# EAGLE library part EP4CE15E22C8N (library Signetics)
Altera FPGA EP4CE15E22C8N, Cyclone IV E 15408 Cells, 504kbit, 963 Blocks, 144-Pin EQFP Source: Datasheet
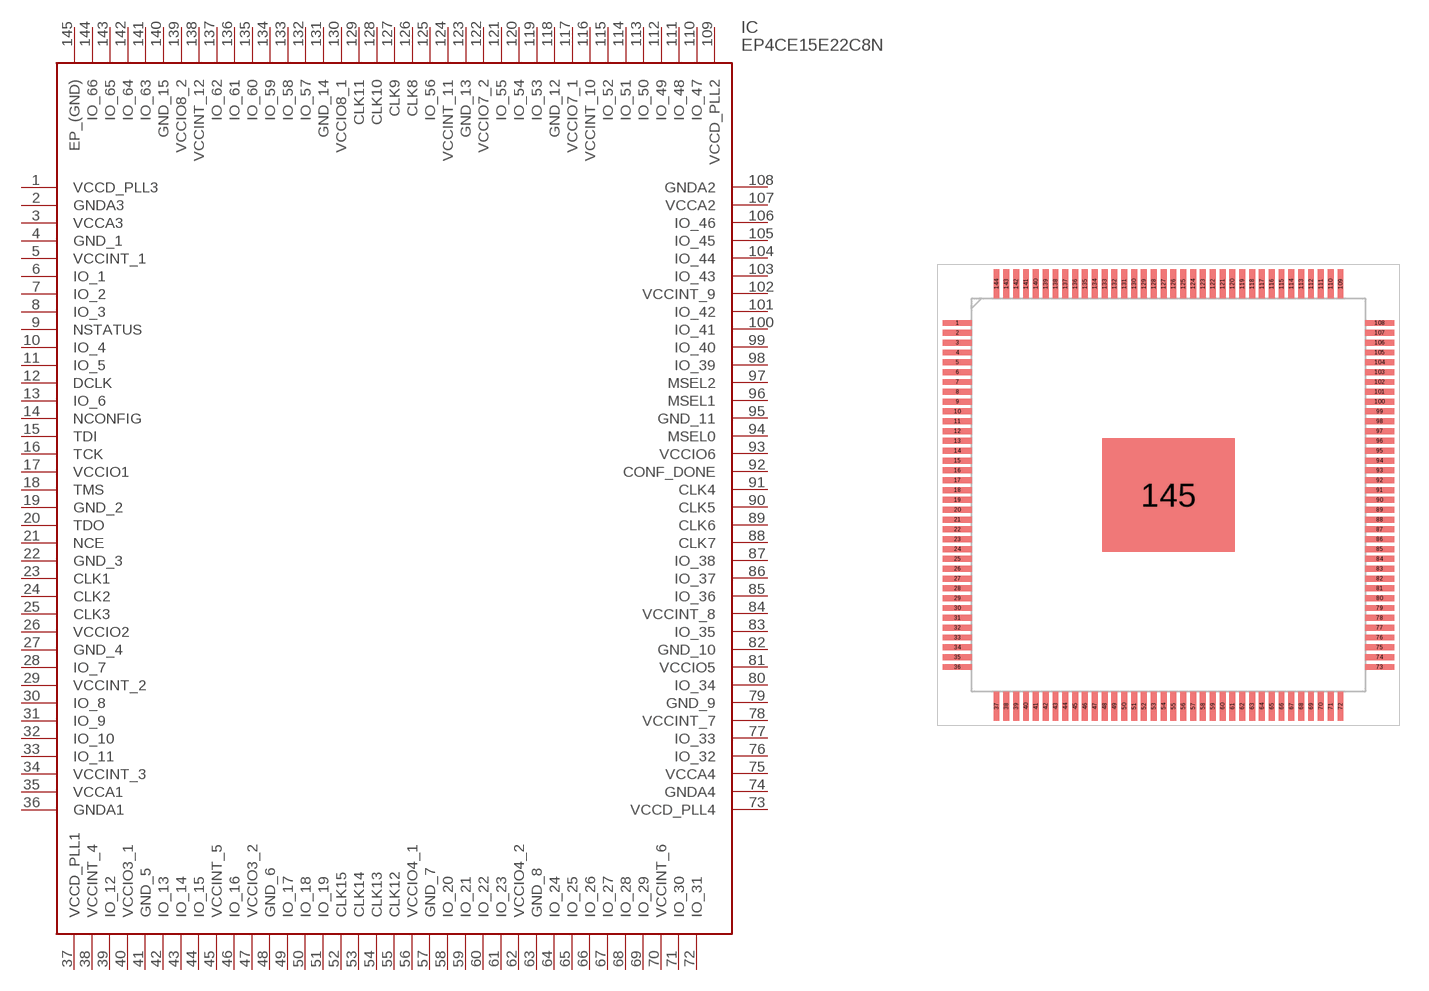
[diagram p20: symbol with the pads of QFP50P2200X2200X165-145N; footprint QFP50P2200X2200X165-145N]

Designator prefix IC

## EP4CE15E22C8N (DESCRIPTION: Altera FPGA EP4CE15E22C8N, Cyclone IV E 15408 Cells, 504kbit, 963 Blocks, 144-Pin EQFP; HEIGHT: 1.65mm; MANUFACTURER_NAME: Intel; MANUFACTURER_PART_NUMBER: EP4CE15E22C8N; MOUSER_PART_NUMBER: 989-EP4CE15E22C8N; MOUSER_PRICE-STOCK: https://www.mouser.co.uk/ProductDetail/Intel-Altera/EP4CE15E22C8N?qs=jblrfmjbeiHyXHcmoANCeA%3D%3D)  [QFP50P2200X2200X165-145N]
1  VCCD_PLL3
2  GNDA3
3  VCCA3
4  GND_1
5  VCCINT_1
6  IO_1
7  IO_2
8  IO_3
9  NSTATUS
10  IO_4
11  IO_5
12  DCLK
13  IO_6
14  NCONFIG
15  TDI
16  TCK
17  VCCIO1
18  TMS
19  GND_2
20  TDO
21  NCE
22  GND_3
23  CLK1
24  CLK2
25  CLK3
26  VCCIO2
27  GND_4
28  IO_7
29  VCCINT_2
30  IO_8
31  IO_9
32  IO_10
33  IO_11
34  VCCINT_3
35  VCCA1
36  GNDA1
37  VCCD_PLL1
38  VCCINT_4
39  IO_12
40  VCCIO3_1
41  GND_5
42  IO_13
43  IO_14
44  IO_15
45  VCCINT_5
46  IO_16
47  VCCIO3_2
48  GND_6
49  IO_17
50  IO_18
51  IO_19
52  CLK15
53  CLK14
54  CLK13
55  CLK12
56  VCCIO4_1
57  GND_7
58  IO_20
59  IO_21
60  IO_22
61  IO_23
62  VCCIO4_2
63  GND_8
64  IO_24
65  IO_25
66  IO_26
67  IO_27
68  IO_28
69  IO_29
70  VCCINT_6
71  IO_30
72  IO_31
73  VCCD_PLL4
74  GNDA4
75  VCCA4
76  IO_32
77  IO_33
78  VCCINT_7
79  GND_9
80  IO_34
81  VCCIO5
82  GND_10
83  IO_35
84  VCCINT_8
85  IO_36
86  IO_37
87  IO_38
88  CLK7
89  CLK6
90  CLK5
91  CLK4
92  CONF_DONE
93  VCCIO6
94  MSEL0
95  GND_11
96  MSEL1
97  MSEL2
98  IO_39
99  IO_40
100  IO_41
101  IO_42
102  VCCINT_9
103  IO_43
104  IO_44
105  IO_45
106  IO_46
107  VCCA2
108  GNDA2
109  VCCD_PLL2
110  IO_47
111  IO_48
112  IO_49
113  IO_50
114  IO_51
115  IO_52
116  VCCINT_10
117  VCCIO7_1
118  GND_12
119  IO_53
120  IO_54
121  IO_55
122  VCCIO7_2
123  GND_13
124  VCCINT_11
125  IO_56
126  CLK8
127  CLK9
128  CLK10
129  CLK11
130  VCCIO8_1
131  GND_14
132  IO_57
133  IO_58
134  IO_59
135  IO_60
136  IO_61
137  IO_62
138  VCCINT_12
139  VCCIO8_2
140  GND_15
141  IO_63
142  IO_64
143  IO_65
144  IO_66
145  EP_(GND)

## Footprint QFP50P2200X2200X165-145N (pad centres in mm)
144-Pin Plastic Enhanced Quad Flat Pack (EQFP) - Wire Bond - A:1.65 - D2:4.00
smd 1.475 x 0.3: 1 -10.738,8.75; 2 -10.738,8.25; 3 -10.738,7.75; 4 -10.738,7.25; 5 -10.738,6.75; 6 -10.738,6.25; 7 -10.738,5.75; 8 -10.738,5.25; 9 -10.738,4.75; 10 -10.738,4.25; 11 -10.738,3.75; 12 -10.738,3.25; 13 -10.738,2.75; 14 -10.738,2.25; 15 -10.738,1.75; 16 -10.738,1.25; 17 -10.738,0.75; 18 -10.738,0.25; 19 -10.738,-0.25; 20 -10.738,-0.75; 21 -10.738,-1.25; 22 -10.738,-1.75; 23 -10.738,-2.25; 24 -10.738,-2.75; 25 -10.738,-3.25; 26 -10.738,-3.75; 27 -10.738,-4.25; 28 -10.738,-4.75; 29 -10.738,-5.25; 30 -10.738,-5.75; 31 -10.738,-6.25; 32 -10.738,-6.75; 33 -10.738,-7.25; 34 -10.738,-7.75; 35 -10.738,-8.25; 36 -10.738,-8.75; 73 10.738,-8.75; 74 10.738,-8.25; 75 10.738,-7.75; 76 10.738,-7.25; 77 10.738,-6.75; 78 10.738,-6.25; 79 10.738,-5.75; 80 10.738,-5.25; 81 10.738,-4.75; 82 10.738,-4.25; 83 10.738,-3.75; 84 10.738,-3.25; 85 10.738,-2.75; 86 10.738,-2.25; 87 10.738,-1.75; 88 10.738,-1.25; 89 10.738,-0.75; 90 10.738,-0.25; 91 10.738,0.25; 92 10.738,0.75; 93 10.738,1.25; 94 10.738,1.75; 95 10.738,2.25; 96 10.738,2.75; 97 10.738,3.25; 98 10.738,3.75; 99 10.738,4.25; 100 10.738,4.75; 101 10.738,5.25; 102 10.738,5.75; 103 10.738,6.25; 104 10.738,6.75; 105 10.738,7.25; 106 10.738,7.75; 107 10.738,8.25; 108 10.738,8.75
smd 0.3 x 1.475: 37 -8.75,-10.738; 38 -8.25,-10.738; 39 -7.75,-10.738; 40 -7.25,-10.738; 41 -6.75,-10.738; 42 -6.25,-10.738; 43 -5.75,-10.738; 44 -5.25,-10.738; 45 -4.75,-10.738; 46 -4.25,-10.738; 47 -3.75,-10.738; 48 -3.25,-10.738; 49 -2.75,-10.738; 50 -2.25,-10.738; 51 -1.75,-10.738; 52 -1.25,-10.738; 53 -0.75,-10.738; 54 -0.25,-10.738; 55 0.25,-10.738; 56 0.75,-10.738; 57 1.25,-10.738; 58 1.75,-10.738; 59 2.25,-10.738; 60 2.75,-10.738; 61 3.25,-10.738; 62 3.75,-10.738; 63 4.25,-10.738; 64 4.75,-10.738; 65 5.25,-10.738; 66 5.75,-10.738; 67 6.25,-10.738; 68 6.75,-10.738; 69 7.25,-10.738; 70 7.75,-10.738; 71 8.25,-10.738; 72 8.75,-10.738; 109 8.75,10.738; 110 8.25,10.738; 111 7.75,10.738; 112 7.25,10.738; 113 6.75,10.738; 114 6.25,10.738; 115 5.75,10.738; 116 5.25,10.738; 117 4.75,10.738; 118 4.25,10.738; 119 3.75,10.738; 120 3.25,10.738; 121 2.75,10.738; 122 2.25,10.738; 123 1.75,10.738; 124 1.25,10.738; 125 0.75,10.738; 126 0.25,10.738; 127 -0.25,10.738; 128 -0.75,10.738; 129 -1.25,10.738; 130 -1.75,10.738; 131 -2.25,10.738; 132 -2.75,10.738; 133 -3.25,10.738; 134 -3.75,10.738; 135 -4.25,10.738; 136 -4.75,10.738; 137 -5.25,10.738; 138 -5.75,10.738; 139 -6.25,10.738; 140 -6.75,10.738; 141 -7.25,10.738; 142 -7.75,10.738; 143 -8.25,10.738; 144 -8.75,10.738
smd 6.76 x 5.765: 145 0,0